# Altium schematic symbol library PTN3460IBS.SchLib: 1 symbol
Pins are listed as number, name and electrical type; pins without a type are passive.

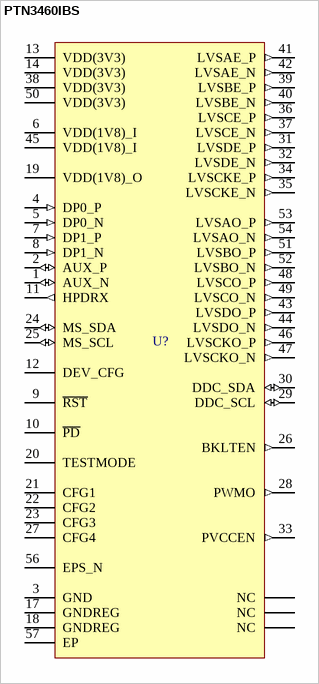
[diagram p0: symbol PTN3460IBS]

## PTN3460IBS
designator U?
eDP to LVDS bridge
pins: 1 AUX_N (io), 2 AUX_P (io), 3 GND (power), 4 DP0_P (in), 5 DP0_N (in), 6 VDD(1V8)_I (power), 7 DP1_P (in), 8 DP1_N (in), 9 ~{RST}, 10 ~{PD}, 11 HPDRX (out), 12 DEV_CFG, 13 VDD(3V3) (power), 14 VDD(3V3) (power), 15 NC, 16 NC, 17 GNDREG (power), 18 GNDREG (power), 19 VDD(1V8)_O (power), 20 TESTMODE, 21 CFG1, 22 CFG2, 23 CFG3, 24 MS_SDA (io), 25 MS_SCL (io), 26 BKLTEN (out), 27 CFG4, 28 PWMO (out), 29 DDC_SCL (io), 30 DDC_SDA (io), 31 LVSDE_P (out), 32 LVSDE_N (out), 33 PVCCEN (out), 34 LVSCKE_P (out), 35 LVSCKE_N (out), 36 LVSCE_P (out), 37 LVSCE_N (out), 38 VDD(3V3) (power), 39 LVSBE_P (out), 40 LVSBE_N (out), 41 LVSAE_P (out), 42 LVSAE_N (out), 43 LVSDO_P (out), 44 LVSDO_N (out), 45 VDD(1V8)_I (power), 46 LVSCKO_P (out), 47 LVSCKO_N (out), 48 LVSCO_P (out), 49 LVSCO_N (out), 50 VDD(3V3) (power), 51 LVSBO_P (out), 52 LVSBO_N (out), 53 LVSAO_P (out), 54 LVSAO_N (out), 55 NC, 56 EPS_N, 57 EP (power)